# Altium schematic symbol library FUSES.SchLib: 13 symbols
Pins are listed as number, name and electrical type; pins without a type are passive.

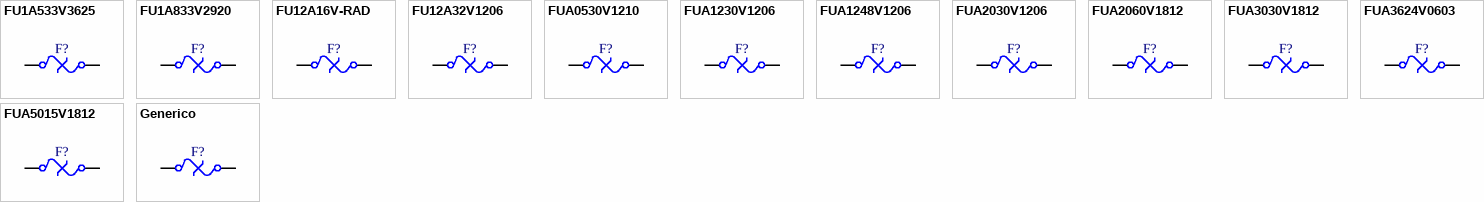
[diagram p0: symbols FU1A533V3625 to Generico]

## FU1A533V3625
designator F?
Polymeric PTC Resettable Fuse 33V 1.5 A Ih Surface Mount 2-SMD; Manufacturer Part Number: MF-SM150/33-2; Manufacturer: Bourns Inc.; Working Temperature: -40°C ~ 85°C; Temperature Coefficient: NC; Short Description: PTC RESET FUSE 33V 1.5A 2SMD; Ratings: REACH, ROHS3, AEC-Q200; Current: 3; Voltage: 33; Value: 1.5; Mounting: SMT; Power: NC; Type: PTC; Frequency: NC; Alternate Part Number 2: *; Tolerance: NC; Revision Date: 03/08/21; Package Reference: 3426
footprint F3426
pins: 1, 2

## FU1A833V2920
designator F?
Polymeric PTC Resettable Fuse 33V 1.85 A Ih Surface Mount 2920 (7351 Metric), Concave; Manufacturer Part Number: 2920L185DR; Manufacturer: Littelfuse Inc.; Working Temperature: -40°C ~ 85°C; Temperature Coefficient: NC; Short Description: PTC RESET FUSE 33V 1.85A 2920; Ratings: ROHS3; Current: 3.7; Voltage: 33; Value: 1.85; Mounting: SMT; Power: NC; Type: PTC; Frequency: NC; Alternate Part Number 2: *; Tolerance: NC; Revision Date: 03/08/21; Package Reference: 2920
footprint F2920
pins: 1, 2

## FU12A16V-RAD
designator F?
Polymeric PTC Resettable Fuse 16V 12 A Ih Through Hole Radial, Disc; Manufacturer Part Number: RGEF1200; Manufacturer: Littelfuse Inc.; Working Temperature: -40°C ~ 85°C; Temperature Coefficient: NC; Short Description: PTC RESET FUSE 16V 12A RADIAL; Ratings: ROHS3; Current: 20.4; Voltage: 16; Value: 12; Mounting: THT; Power: NC; Type: PTC; Frequency: NC; Alternate Part Number 2: *; Tolerance: NC; Revision Date: 03/08/21; Package Reference: Radial
footprint RGEF1200
pins: 1, 2

## FU12A32V1206
designator F?  (value not drawn)
12 A 32 V AC 32 V DC Fuse Board Mount (Cartridge Style Excluded) Surface Mount 1206 (3216 Metric); Manufacturer Part Number: TR/3216TD12-R; Manufacturer: Eaton - Electronics Division; Working Temperature: -55°C ~ 125°C; Temperature Coefficient: NC; Short Description: FUSE BRD MNT 12A 32VAC/DC 1206; Ratings: REACH, ROHS3, AEC-Q200; Type: PTC; Current: 12 A; Voltage: 32 V; Value: 12 A; Mounting: SMT; Power: NC; Frequency: NC; Alternate Part Number 2: *; Tolerance: NC; Revision Date: 03/08/21; Package Reference: 1206
footprint F1206
pins: 1, 2

## FUA0530V1210
designator F?
Polymeric PTC Resettable Fuse 30V 50 mA Ih Surface Mount 1210 (3225 Metric), Concave; Manufacturer Part Number: MICROSMD005F-2; Manufacturer: Littelfuse Inc.; Working Temperature: -40°C ~ 85°C; Temperature Coefficient: NC; Short Description: PTC RESET FUSE 30V 50MA 1210; Ratings: ROHS3; Current: 150m; Voltage: 30; Value: 50m; Mounting: SMT; Power: NC; Type: PTC; Frequency: NC; Alternate Part Number 2: *; Tolerance: NC; Revision Date: 03/08/21; Package Reference: 1210
footprint F1210
pins: 1, 2

## FUA1230V1206
designator F?
Polymeric PTC Resettable Fuse 30V 120 mA Ih Surface Mount 1206 (3216 Metric), Concave; Manufacturer Part Number: MF-NSMF012-2; Manufacturer: Bourns Inc.; Working Temperature: -40°C ~ 85°C; Temperature Coefficient: NC; Short Description: PTC RESET FUSE 30V 120MA 1206; Ratings: REACH, ROHS3, AEC-Q200; Current: 290m; Voltage: 30; Value: 120m; Mounting: SMT; Power: NC; Type: PTC; Frequency: NC; Alternate Part Number 2: *; Tolerance: NC; Revision Date: 03/08/21; Package Reference: 1206
footprint F1206
pins: 1, 2

## FUA1248V1206
designator F?
Polymeric PTC Resettable Fuse 48V 120 mA Ih Surface Mount 1206 (3216 Metric), Concave; Manufacturer Part Number: 0ZCJ0012FF2E; Manufacturer: Bel Fuse Inc.; Working Temperature: -40°C ~ 85°C; Temperature Coefficient: NC; Short Description: PTC RESET FUSE 48V 120MA 1206; Ratings: REACH, ROHS3, AEC-Q200; Current: 390m; Voltage: 48; Value: 120m; Mounting: SMT; Power: NC; Type: PTC; Frequency: NC; Alternate Part Number 2: *; Tolerance: NC; Revision Date: 03/08/21; Package Reference: 1206
footprint F1206
pins: 1, 2

## FUA2030V1206
designator F?
Polymeric PTC Resettable Fuse 30V 200 mA Ih Surface Mount 1206 (3216 Metric), Concave; Manufacturer Part Number: MF-NSMF020X-2; Manufacturer: Bourns Inc.; Working Temperature: -40°C ~ 85°C; Temperature Coefficient: NC; Short Description: PTC RESET FUSE 30V 200MA 1206; Ratings: REACH, ROHS3, AEC-Q200; Current: Curr. Trip (It) 400mA, Max 60A; Voltage: 30; Value: Curr. Hold (Ih) 200mA; Mounting: SMT; Power: NC; Type: PTC; Frequency: NC; Alternate Part Number 2: *; Tolerance: NC; Revision Date: 03/08/21; Package Reference: 1206
footprint F1206
pins: 1, 2

## FUA2060V1812
designator F?
Polymeric PTC Resettable Fuse 60V 200 mA Ih Surface Mount 1812 (4532 Metric), Concave; Manufacturer Part Number: 0ZCG0020AF2C; Manufacturer: Bel Fuse Inc.; Working Temperature: -40°C ~ 85°C; Temperature Coefficient: NC; Short Description: PTC RESET FUSE 60V 200MA 1812; Ratings: REACH, ROHS3, AEC-Q200; Current: Curr. Trip (It) 400mA, Max 40A; Voltage: 60; Value: Curr. Hold (Ih) 200mA; Mounting: SMT; Power: NC; Type: PTC; Frequency: NC; Alternate Part Number 2: *; Tolerance: NC; Revision Date: 11/07/22; Package Reference: 1812 (4532 Metric)
footprint F1812
pins: 1, 2

## FUA3030V1812
designator F?
Polymeric PTC Resettable Fuse 30V 300 mA Ih Surface Mount 1812 (4532 Metric), Concave; Manufacturer Part Number: MF-MSMF030-2; Manufacturer: Bourns Inc.; Working Temperature: -40°C ~ 85°C; Temperature Coefficient: NC; Short Description: PTC RESET FUSE 30V 300MA 1812; Ratings: REACH, ROHS3, AEC-Q200; Current: 600m; Voltage: 30; Value: 300m; Mounting: SMT; Power: NC; Type: PTC; Frequency: NC; Alternate Part Number 2: *; Tolerance: NC; Revision Date: 03/08/21; Package Reference: 1812
footprint F1812
pins: 1, 2

## FUA3624V0603
designator F?
Ceramic PTC Resettable Fuse 24V 36 mA Ih Surface Mount 0603 (1608 Metric); Manufacturer Part Number: PRG18BB330MB1RB; Manufacturer: Murata Electronics; Working Temperature: -20°C ~ 75°C; Temperature Coefficient: NC; Short Description: PTC RESET FUSE 24V 36MA 0603; Ratings: ROHS3; Current: 71m; Voltage: 24; Value: 36m; Mounting: SMT; Power: NC; Type: PTC; Frequency: NC; Alternate Part Number 2: *; Tolerance: NC; Revision Date: 03/08/21; Package Reference: 0603
footprint F0603
pins: 1, 2

## FUA5015V1812
designator F?
Polymeric PTC Resettable Fuse 15V 500 mA Ih Surface Mount 1812 (4532 Metric), Concave; Manufacturer Part Number: MF-MSMF050-2; Manufacturer: Bourns Inc.; Working Temperature: -40°C ~ 85°C; Temperature Coefficient: NC; Short Description: PTC RESET FUSE 15V 500MA 1812; Ratings: REACH, ROHS3, AEC-Q200; Current: 1; Voltage: 15; Value: 500m; Mounting: SMT; Power: NC; Type: PTC; Frequency: NC; Alternate Part Number 2: *; Tolerance: NC; Revision Date: 03/08/21; Package Reference: 1812
footprint F1812
pins: 1, 2

## Generico
designator F?
Manufacturer Part Number: *; Working Temperature: *; Temperature Coefficient: *; Mounting: *; Short Description: *; Power: *; Ratings: *; Type: *; Frequency: *; Alternate Part Number 1: *; Alternate Part Number 2: *; Manufacturer: *; Tolerance: *; Current: *; Revision Date: *; Package Reference: *; Voltage: *; Value: *
pins: 1, 2